# Altium schematic symbol library Miscellaneous XTAL.SchLib: 4 symbols
Pins are listed as number, name and electrical type; pins without a type are passive.

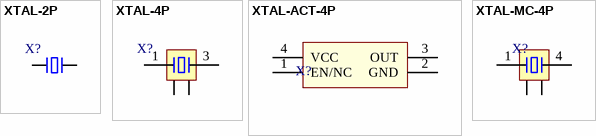
[diagram p0: symbols XTAL-2P to XTAL-MC-4P]

## XTAL-2P
designator X?
2脚无源脚晶振
footprint OSC HC-49S
footprint OSC 455E-LI (3.6mm*7mm*9mm(长*宽*高)  脚距5mm)
footprint OSC 455E-WI (3.6mm*7mm*9mm(长*宽*高)  脚距5mm)
footprint OSC 3215-2P (3.2*1.5*0.6mm(长宽高))
footprint OSC 5032-2P (5mm*3.2mm*0.8mm(长*宽*高))
footprint OSC 6035-2P (6mm*3.5mm*1mm(长*宽*高))
footprint OSC 7050-2P (7mm*5mm*1.3mm(长*宽*高))
footprint OSC 8045-2P (8mm*4.5mm*1.8mm(长*宽*高))
footprint OSC-2x6-LI (脚距：1.6mm)
footprint OSC-2x6-WI-A (脚距：1.6mm)
footprint OSC-2x6-WI-B (脚距：1.6mm)
footprint OSC-2x6-WS (脚距：1.6mm)
footprint OSC-3x8-LI (脚距：2mm)
footprint OSC-3x8-WI-A (脚距：2mm)
footprint OSC-3x8-WI-B (脚距：2mm)
footprint OSC-3x8-WS (脚距：2mm)
footprint OSC-3x10-LI (脚距：2mm)
footprint OSC-3x10-WI-A (脚距：2mm)
footprint OSC-3x10-WI-B (脚距：2mm)
footprint OSC-3x10-WS (脚距：2mm)
footprint OSC HC-49SMD
footprint OSC HC-49U
footprint OSC UM-1
footprint OSC UM-5
pins: 1, 2

## XTAL-4P
designator X?
4脚无源晶振
footprint OSC 1612-4P (1.6*1.2*0.35mm（长宽高）)
footprint OSC 2025-4P (2*2.5*0.55mm(长宽高))
footprint OSC 3225-4P (3.2*2.5*0.7mm(长宽高))
footprint OSC 4025-4P (4*2.5*0.7mm(长宽高))
footprint OSC 5032-4P (5mm*3.2mm*0.8mm(长*宽*高))
footprint OSC 6035-4P (6mm*3.5mm*1mm(长*宽*高))
footprint OSC 7050-4P (7mm*5mm*1.3mm(长*宽*高))
footprint OSC 8045-4P (8mm*4.5mm*1.6mm(长*宽*高))
footprint OSC 8045-4P-C (8mm*4.5mm*1.8mm(长*宽*高))
pins: 1, 2, 3, 4

## XTAL-ACT-4P
designator X?
4脚有源晶振
footprint OSC 1612-4P (1.6*1.2*0.35mm（长宽高）)
footprint OSC 2025-4P (2*2.5*0.55mm(长宽高))
footprint OSC 3225-4P (3.2*2.5*0.7mm(长宽高))
footprint OSC 4025-4P (4*2.5*0.7mm(长宽高))
footprint OSC 5032-4P (5mm*3.2mm*0.8mm(长*宽*高))
footprint OSC 6035-4P (6mm*3.5mm*1mm(长*宽*高))
footprint OSC 7050-4P (7mm*5mm*1.3mm(长*宽*高))
footprint OSC 8045-4P (8mm*4.5mm*1.6mm(长*宽*高))
footprint OSC 8045-4P-C (8mm*4.5mm*1.8mm(长*宽*高))
pins: 1 EN/NC, 2 GND, 3 OUT, 4 VCC

## XTAL-MC-4P
designator X?
MC系列4脚晶振
footprint OSC MC-146 (6.7mm*1.5mm*1.4mm(长*宽*高))
footprint OSC MC-156 (7.1mm*2.5mm*1.5mm(长*宽*高))
footprint OSC MC-306 (8mm*3.2mm*2.54mm(长*宽*高))
footprint OSC MC-406 (9.6mm*4.06mm*3.6mm(长*宽*高))
footprint OSC MC-405 (9.6mm*4.06mm*3.6mm(长*宽*高))
pins: 1, 2, 3, 4